# Altium schematic symbol library test.SchLib: 309 symbols (part 4 of 9)
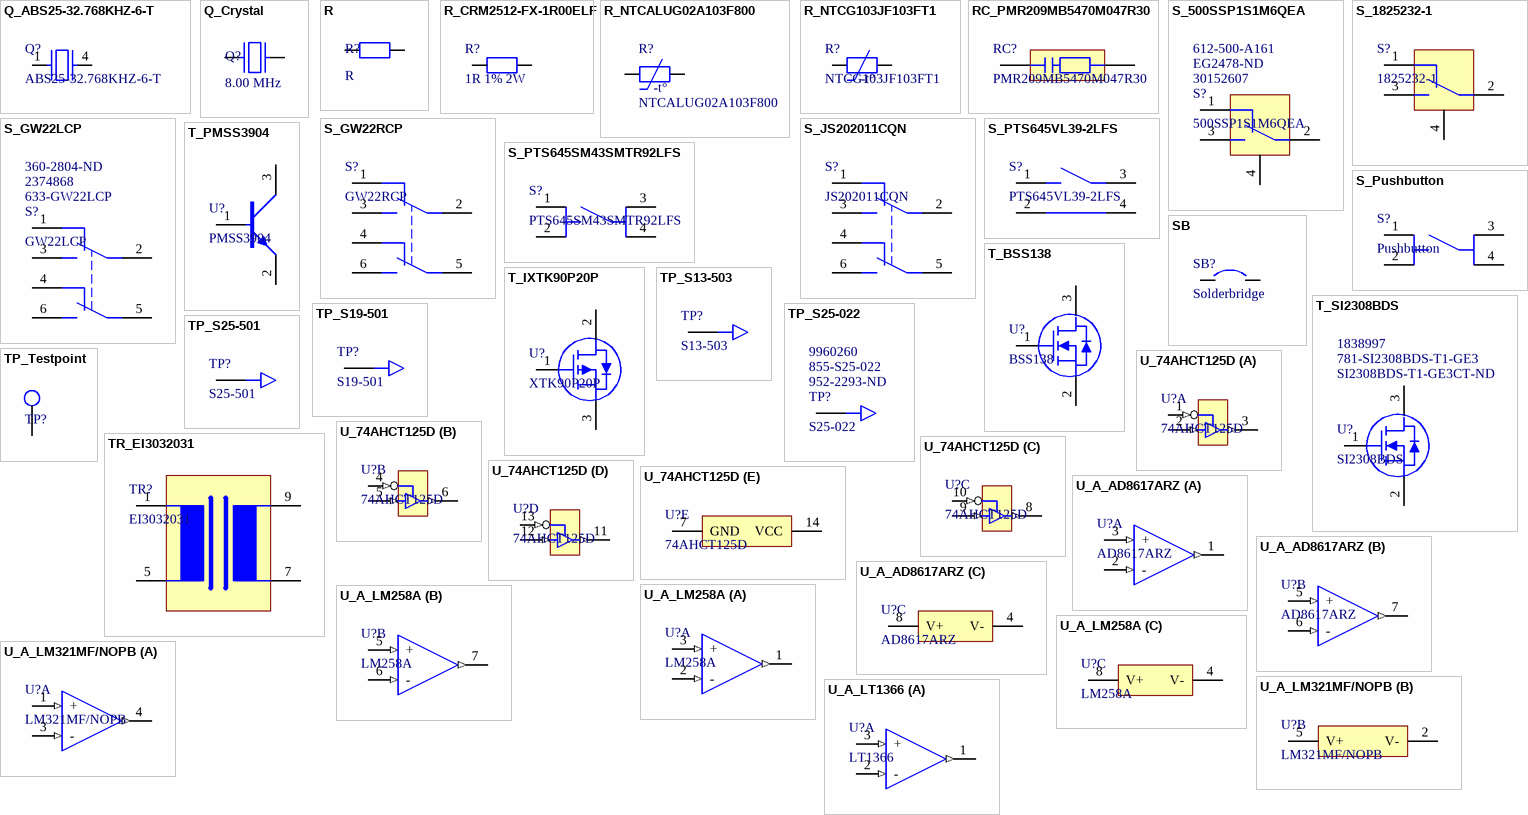
[diagram p11: symbols Q_ABS25-32.768KHZ-6-T to U_A_LT1366]

## Q_ABS25-32.768KHZ-6-T
designator Q?, comment ABS25-32.768KHZ-6-T
CRYSTAL 32.7680KHZ 6PF SMD; Manufacturer: Abracon; Frequency Tolerance: 20ppm; ESR (Equivalent Series Resistance): 50kR; Insulation Resistance: 500MR; Supplier 1: Digi-Key; Supplier Part Number 1: 535-10240-1-ND; Manufacturer Part Number: ABS25-32.768KHZ-6-T; Case/Package: SMD/SMT; ComponentLink1URL: https://datasheet.ciiva.com/854/abs25-854528.pdf; ComponentLink1Description: https://datasheet.ciiva.com/854/abs25-854528.pdf; ComponentLink2URL: https://datasheet.ciiva.com/26909/getdatasheetpartid-722397-26909970.pdf; ComponentLink2Description: https://datasheet.ciiva.com/26909/getdatasheetpartid-722397-26909970.pdf; ComponentLink3URL: https://datasheet.ciiva.com/854/abs25-854529.pdf; ComponentLink3Description: https://datasheet.ciiva.com/854/abs25-854529.pdf; ComponentLink4URL: https://datasheet.ciiva.com/5788/abs25-5788102.pdf; ComponentLink4Description: https://datasheet.ciiva.com/5788/abs25-5788102.pdf; ComponentLink5URL: https://datasheet.ciiva.com/7998/1856019-7998662.pdf; ComponentLink5Description: https://datasheet.ciiva.com/7998/1856019-7998662.pdf; ComponentLink6URL: https://datasheet.ciiva.com/1357/1856019-1357324.pdf; ComponentLink6Description: https://datasheet.ciiva.com/1357/1856019-1357324.pdf; ComponentLink7URL: https://datasheet.ciiva.com/854/abs25-854527.pdf; ComponentLink7Description: https://datasheet.ciiva.com/854/abs25-854527.pdf; RoHS: Yes; Category: Crystals; Stock 1: 8; Pricing 1: 1=1.10000, 10=1.05300, 50=1.02820, 100=0.88130, 500=0.85680, 1000=0.72216 (USD); Mount: Surface Mount; Number of Pins: 4; Min Operating Temperature: -40°C; Max Operating Temperature: 85°C; Package Quantity: 3000; Frequency: 32.768kHz; Load Capacitance: 6pF; Packaging: Tape and Reel; Tolerance: 20ppm; Termination: SMD/SMT; Series Resistance: 50kR; Length: 8.7mm; Width: 0.15inch; Height: 0.098inch; Depth: 3.8mm; Radiation Hardening: No; Lead Free: Lead Free; REACH SVHC: No SVHC; ComponentLink8URL: https://datasheet.ciiva.com/854/abs25-854528.pdf?src-supplier=Digi-Key; ComponentLink8Description: https://datasheet.ciiva.com/854/abs25-854528.pdf?src-supplier=Digi-Key; ComponentLink9URL: https://datasheet.ciiva.com/26909/getdatasheetpartid-722397-26909970.pdf?src-supplier=Verical; ComponentLink9Description: https://datasheet.ciiva.com/26909/getdatasheetpartid-722397-26909970.pdf?src-supplier=Verical; ComponentLink10URL: https://datasheet.ciiva.com/854/abs25-854529.pdf?src-supplier=Digi-Key; ComponentLink10Description: https://datasheet.ciiva.com/854/abs25-854529.pdf?src-supplier=Digi-Key; ComponentLink11URL: https://datasheet.ciiva.com/5788/abs25-5788102.pdf?src-supplier=Farnell; ComponentLink11Description: https://datasheet.ciiva.com/5788/abs25-5788102.pdf?src-supplier=Farnell; ComponentLink12URL: https://datasheet.ciiva.com/7998/1856019-7998662.pdf?src-supplier=Element14; ComponentLink12Description: https://datasheet.ciiva.com/7998/1856019-7998662.pdf?src-supplier=Element14; ComponentLink13URL: https://datasheet.ciiva.com/1357/1856019-1357324.pdf?src-supplier=Element14; ComponentLink13Description: https://datasheet.ciiva.com/1357/1856019-1357324.pdf?src-supplier=Element14; ComponentLink14URL: https://datasheet.ciiva.com/854/abs25-854527.pdf?src-supplier=Digi-Key; ComponentLink14Description: https://datasheet.ciiva.com/854/abs25-854527.pdf?src-supplier=Digi-Key; Supplier 2: Farnell; Stock 2: 3; Pricing 2: 5=0.93700, 50=0.80800, 250=0.68900, 500=0.66900, 1500=0.65000 (GBP); Supplier 3: Mouser; Supplier Part Number 2: 2101354; Supplier Part Number 3: 815-ABS25-32.768K6-T
footprint ABS25
pins: 1, 4

## Q_Crystal
designator Q?, comment 8.00 MHz
Crystal, generic
footprint ABLS2 (CRYSTAL Abracon LLC)
pins: 1, 2

## R
designator R?
Resistor, generic
footprint 0402_R
footprint 0603_R
footprint 0805_R
footprint 1206_R
footprint 1210_R
footprint 1218_R
footprint 2010_R
footprint 2512_R
footprint 0201_R (Chip Resistor, 2-Leads, Body 0.60x0.30mm, IPC Medium Density)
footprint 01005_R (Chip Resistor, 2-Leads, Body 0.40x0.20mm, IPC Medium Density)
footprint 10mm_tht_r
footprint 10.16mm_tht_r
footprint Resistor Pitch 2.54mm
pins: 1, 2

## R_CRM2512-FX-1R00ELF
designator R?, comment 1R 1% 2W
BOURNS - CRM2512-FX-1R00ELF - RESISTOR THICK FILM, 1OHM, 1%, 2512; Temperature Coefficient: 100ppm/°C; Voltage Rating: 300V; Supplier 1: Digi-Key; Supplier Part Number 1: CRM2512-FX-1R00ELFCT-ND; Manufacturer: Bourns; Manufacturer Part Number: CRM2512-FX-1R00ELF; Case/Package: 2512; ComponentLink1URL: https://datasheet.ciiva.com/22713/1695365-22713390.pdf; ComponentLink1Description: https://datasheet.ciiva.com/22713/1695365-22713390.pdf; ComponentLink2URL: https://datasheet.ciiva.com/2591/crm-2591396.pdf; ComponentLink2Description: https://datasheet.ciiva.com/2591/crm-2591396.pdf; Supplier 2: Farnell; RoHS: Yes; Category: Chip SMD Resistors; Stock 2: 6279; Pricing 2: 10=0.46100, 100=0.36800, 500=0.28100, 1000=0.24100, 2000=0.23600 (GBP); Mount: Surface Mount; Contact Plating: Tin; Case Code (Metric): 6432; Case Code (Imperial): 2512; Min Operating Temperature: -55°C; Max Operating Temperature: 155°C; Resistance: 1R; Tolerance: 1%; Power Rating: 2W; Resistor Type: Thick Film; Packaging: Tape and Reel; Package Quantity: 4000; Number of Terminations: 2; Max Power Dissipation: 2W; Voltage Rating (DC): 300V; Series: CRM2512; Construction: Rectangular; Resistance Tolerance: 1%; Length: 0.248inch; Width: 0.122inch; Height: 0.031inch; Depth: 3.1mm; REACH SVHC: No SVHC; Military Standard: Not; RoHS Compliant: Yes; ComponentLink3URL: https://datasheet.ciiva.com/2591/crm-2591396.pdf?src-supplier=Digi-Key; ComponentLink3Description: https://datasheet.ciiva.com/2591/crm-2591396.pdf?src-supplier=Digi-Key; ComponentLink4URL: https://datasheet.ciiva.com/22713/1695365-22713390.pdf?src-supplier=Element14; ComponentLink4Description: https://datasheet.ciiva.com/22713/1695365-22713390.pdf?src-supplier=Element14; Supplier 3: Mouser; Pricing 3: 1=0.65000, 10=0.38300, 50=0.38300, 100=0.35600, 1000=0.23300, 10000=0.22500 (USD); Supplier Part Number 2: 2328172; Supplier Part Number 3: 652-CRM2512FX1R00ELF
footprint 2512_R
pins: 1 2, 2

## R_NTCALUG02A103F800
designator R?, comment NTCALUG02A103F800
THERM NTC 10KOHM 3984K RING LUG; Manufacturer: Vishay BCcomponents; Tolerance: 1%; Max Power Dissipation: 100mW; Supplier 1: Digi-Key; Supplier Part Number 1: BC2899-ND; Manufacturer Part Number: NTCALUG02A103F800; RoHS: Yes; Category: Thermistors; Stock 1: 169; Pricing 1: 1=2.55000, 5=2.41600, 10=2.07000, 25=1.65600, 50=1.51800, 100=1.38000, 500=1.20750, 1000=1.06950, 5000=1.00050 (USD); Mount: Free Hanging; Min Operating Temperature: -40°C; Max Operating Temperature: 150°C; Packaging: Bulk; Lead Free: Lead Free; ComponentLink1URL: http://www.vishay.com/docs/48301/_capabilities_and_options_ntcalug_vmn-ms7447.pdf?src-supplier=Digi-Key; ComponentLink1Description: http://www.vishay.com/docs/48301/_capabilities_and_options_ntcalug_vmn-ms7447.pdf?src-supplier=Digi-Key; Supplier 2: Farnell; Stock 2: 460; Pricing 2: 1=2.42000, 10=1.98000, 25=1.62000, 50=1.50000, 100=1.37000, 500=1.22000, 1000=1.09000 (GBP); Supplier 3: Distrelec; Stock 3: 408; Pricing 3: 1=2.29000, 10=1.96300, 50=1.71800, 100=1.52700, 500=1.37400, 1000=1.14500 (EUR); Supplier Part Number 2: 2885025; Supplier Part Number 3: 30153835
footprint NTCALUG02A103F800
pins: 1, 2
text: -t°

## R_NTCG103JF103FT1
designator R?, comment NTCG103JF103FT1
THERMISTOR NTC 10K OHM 1% 0402; Manufacturer: TDK; Manufacturer Part Number: NTCG103JF103FT1; Case/Package: 0402; ComponentLink1URL: https://datasheet.ciiva.com/2848/ntcg103jf103ft1-web-2848583.pdf; ComponentLink1Description: https://datasheet.ciiva.com/2848/ntcg103jf103ft1-web-2848583.pdf; ComponentLink2URL: https://datasheet.ciiva.com/2848/ntcg103jf103ft1-web-2848584.pdf; ComponentLink2Description: https://datasheet.ciiva.com/2848/ntcg103jf103ft1-web-2848584.pdf; ComponentLink3URL: https://datasheet.ciiva.com/2848/ntcg103jf103ft1-web-2848585.pdf; ComponentLink3Description: https://datasheet.ciiva.com/2848/ntcg103jf103ft1-web-2848585.pdf; Supplier 1: Digi-Key; Supplier 2: Mouser; Supplier 3: Farnell; Supplier Part Number 1: 445-2550-1-ND; Supplier Part Number 2: 810-NTCG103JF103FT1; Supplier Part Number 3: 3516879
footprint 0402_R
pins: 1, 2
text: -t°

## RC_PMR209MB5470M047R30
designator RC?, comment PMR209MB5470M047R30
Film Capacitors 250volts 0.047uF 20% LS 15.2mm; Manufacturer: KEMET; Dielectric Material: Paper; Capacitance: 47nF; Resistance: 47R; Voltage Rating (AC): 250V; Number of Elements: 1; Voltage: 630V; Insulation Resistance: 3GR; Lead Diameter: 0.8mm; Lead Length: 30mm; Supplier 1: Digi-Key; Supplier Part Number 1: 399-7509-ND; Manufacturer Part Number: PMR209MB5470M047R30; Stock 1: 59; Pricing 1: 1 = 3.70000, 10 = 2.98100, 100 = 2.32500, 500 = 1.72884, 1000 = 1.60961, 2500 = 1.54999, 5000 = 1.52018 (USD); RoHS: Yes; Mount: Through Hole; Case/Package: Radial; Number of Terminals: 2; Min Operating Temperature: -40°C; Max Operating Temperature: 85°C; Tolerance: 20%; Termination: Radial; Package Quantity: 400; Packaging: Bulk; Series Resistance: 47R; Voltage Rating (DC): 250V; Length: 18.5mm; Height: 13mm; Width: 7.3mm; Lead Pitch: 15.2mm; Height - Seated (Max): 0.512inch; Terminal Pitch: 15.2mm; Depth: 7.3mm; Pitch: 15.2mm; Radiation Hardening: No; REACH SVHC: No SVHC; ComponentLink1URL: https://datasheet.ciiva.com/23810/1723866-23810753.pdf?src-supplier=Newark; ComponentLink1Description: https://datasheet.ciiva.com/23810/1723866-23810753.pdf?src-supplier=Newark; ComponentLink2URL: https://datasheet.ciiva.com/22666/1723866-22666524.pdf?src-supplier=Element14; ComponentLink2Description: https://datasheet.ciiva.com/22666/1723866-22666524.pdf?src-supplier=Element14; ComponentLink3URL: https://datasheet.ciiva.com/28454/1723866-28454893.pdf?src-supplier=Element14; ComponentLink3Description: https://datasheet.ciiva.com/28454/1723866-28454893.pdf?src-supplier=Element14
footprint PMR209MB5470M047R30 (FILTER RC 47 OHM/0.047UF TH)
pins: 1, 2

## S_500SSP1S1M6QEA
designator S?, comment 500SSP1S1M6QEA  Supplier Part Number 1: 30152607  Supplier Part Number 2: EG2478-ND  Supplier Part Number 3: 612-500-A161
Switch Slide ON None ON SPDT Side Slide 5A 250VAC 28VDC PC Pins Bracket Mount/Through Hole; Manufacturer: E-Switch; Mechanical Life: 30000Cycles; Actuator Material: Nylon,Polyamide; Actuator Type: Standard; Voltage Rating (AC): 120V; Max Voltage Rating (AC): 250V; Voltage Rating (DC): 28V; Contact Resistance: 10mR; Switch Function: On-On; Switch Travel: 2.16mm; Actuator Length: 4.72mm; Manufacturer Part Number: 500SSP1S1M6QEA; RoHS: Yes; Category: Slide Switches; Stock: 1595; Pricing 2: 1=3.03000, 10=2.85700, 25=2.59760, 100=2.25130, 250=2.04104, 500=1.89262, 1000=1.75654, 2500=1.59573, 5000=1.48440 (USD); Mount: Through Hole,Brackets; Contact Plating: Silver; Contact Material: Copper Alloy,Copper,Silver; Housing Material: Stainless Steel; Min Operating Temperature: -30°C; Max Operating Temperature: 85°C; Termination: PC Pin; Electrical Life: 30000Cycles; Contact Current Rating: 5A; Packaging: Bulk; Current Rating: 5A; Throw Configuration: SPDT; Max Voltage Rating (DC): 28V; Package Quantity: 1; Orientation: Right Angle; REACH SVHC: Unknown; Flammability Rating: UL94 V-0; Lead Free: Lead Free; ComponentLink1URL: https://datasheet.ciiva.com/2889/t511006d-2889419.pdf?src-supplier=Digi-Key; ComponentLink1Description: https://datasheet.ciiva.com/2889/t511006d-2889419.pdf?src-supplier=Digi-Key; ComponentLink2URL: https://datasheet.ciiva.com/16337/500-16337624.pdf?src-supplier=Future+Electronics; ComponentLink2Description: https://datasheet.ciiva.com/16337/500-16337624.pdf?src-supplier=Future+Electronics; ComponentLink3URL: https://datasheet.ciiva.com/16174/35500-16174234.pdf?src-supplier=Onlinecomponents.com; ComponentLink3Description: https://datasheet.ciiva.com/16174/35500-16174234.pdf?src-supplier=Onlinecomponents.com; Supplier 1: Distrelec; Supplier 2: Digi-Key; Supplier 3: Mouser
footprint 500SSP1S1M6QEA
pins: 1 16, 2 18, 3 17, 4

## S_1825232-1
designator S?, comment 1825232-1
Slide Switches SLIDE SWITCH SPDT Right Angle; Manufacturer: TE Connectivity AMP; Actuator Material: Nylon; Mechanical Life: 10000Cycles; Voltage Rating (DC): 30V; Current Rating: 200mA; Operating Force: 200gf; Number of Positions: 2; PCB Mount Retention: With; Switch Function: On-On; Switch Travel: 2mm; Actuator Type: Standard; Contact Style: Non-Shorting; Tail Length: 0.094inch; Actuator Length: 0.118inch; Max Current Rating: 100A; Resistance: 4.5R; Power Dissipation: 600mW; Hold Current: 160mA; Trip Current: 370mA; Time to Trip: 0.3s; Approvals: cULus,TUV; Manufacturer Part Number: 1825232-1; RoHS: Yes; Category: Slide Switches; Stock 1: 15722; Pricing 1: 1=0.31000, 10=0.30000, 25=0.29360, 50=0.26240, 100=0.24990, 250=0.24360, 500=0.20614, 1000=0.19989, 5000=0.17490 (USD); Mount: Through Hole; Contact Material: Copper Alloy; Contact Plating: Silver; Min Operating Temperature: -20°C; Max Operating Temperature: 70°C; Throw Configuration: SPDT; Package Quantity: 19200; Packaging: Tray; Orientation: Right Angle; Contact Current Rating: 200mA; Termination: PC Pin; Electrical Life: 10000Cycles; Type: Switch; Max Voltage Rating (DC): 30V; Length: 0.3563inch; Width: 4.3mm; ELV: Compliant; Flammability Rating: UL94 HB; ComponentLink1URL: https://datasheet.ciiva.com/15085/eng-cd-1825232-b2-15085854.pdf?src-supplier=Digi-Key; ComponentLink1Description: https://datasheet.ciiva.com/15085/eng-cd-1825232-b2-15085854.pdf?src-supplier=Digi-Key; Stock 2: 6; Pricing 2: 1=0.34000, 10=0.31200, 50=0.28000, 100=0.26800, 1000=0.19100, 10000=0.18300 (USD); Case/Package: 1206; Case Code (Metric): 3216; Case Code (Imperial): 1206; Terminal Material: Copper; Operating Supply Voltage: 30V; Voltage Rating: 30V; Working Voltage: 30V; Max Power Dissipation: 600mW; Series: 1206L; Height: 1.45mm; REACH SVHC: No SVHC; Lead Free: Lead Free; RoHS Compliant: Yes; ComponentLink2URL: https://datasheet.ciiva.com/1273/578280-1273584.pdf?src-supplier=Element14; ComponentLink2Description: https://datasheet.ciiva.com/1273/578280-1273584.pdf?src-supplier=Element14; ComponentLink3URL: https://datasheet.ciiva.com/14102/1206l-eng-datasheet-14102816.pdf?src-supplier=Distrelec; ComponentLink3Description: https://datasheet.ciiva.com/14102/1206l-eng-datasheet-14102816.pdf?src-supplier=Distrelec; ComponentLink4URL: https://datasheet.ciiva.com/16321/littelfuse-1206l-16321409.pdf?src-supplier=Future+Electronics; ComponentLink4Description: https://datasheet.ciiva.com/16321/littelfuse-1206l-16321409.pdf?src-supplier=Future+Electronics; ComponentLink5URL: https://datasheet.ciiva.com/30470/0900766b8128f4fb-30470039.pdf?src-supplier=RSComponents; ComponentLink5Description: https://datasheet.ciiva.com/30470/0900766b8128f4fb-30470039.pdf?src-supplier=RSComponents; ComponentLink6URL: https://datasheet.ciiva.com/1273/littelfuse-ptc-1206l-1273585.pdf?src-supplier=Element14; ComponentLink6Description: https://datasheet.ciiva.com/1273/littelfuse-ptc-1206l-1273585.pdf?src-supplier=Element14; ComponentLink7URL: https://datasheet.ciiva.com/325/littelfuse-ptc-1206l-325747.pdf?src-supplier=Digi-Key; ComponentLink7Description: https://datasheet.ciiva.com/325/littelfuse-ptc-1206l-325747.pdf?src-supplier=Digi-Key; ComponentLink8URL: https://datasheet.ciiva.com/325/littelfuse-ptc-1206l-325748.pdf?src-supplier=Digi-Key; ComponentLink8Description: https://datasheet.ciiva.com/325/littelfuse-ptc-1206l-325748.pdf?src-supplier=Digi-Key; ComponentLink9URL: https://datasheet.ciiva.com/325/littelfuse-ptc-1206l-325749.pdf?src-supplier=Digi-Key; ComponentLink9Description: https://datasheet.ciiva.com/325/littelfuse-ptc-1206l-325749.pdf?src-supplier=Digi-Key; Stock 3: 13219; Pricing 3: 1=0.29800, 10=0.28400, 25=0.27800, 100=0.23900, 500=0.20100, 1000=0.19600 (GBP); Supplier 1: Digi-Key; Supplier 2: Mouser; Supplier 3: Farnell; Supplier Part Number 1: A107673-ND; Supplier Part Number 2: 655-1825232-1; Supplier Part Number 3: 2772069
footprint 1825232-1
pins: 1 16, 2 18, 3 17, 4

## S_GW22LCP
designator S?, comment GW22LCP  Supplier Part Number 1: 633-GW22LCP  Supplier Part Number 2: 2374868  Supplier Part Number 3: 360-2804-ND
Rocker Switches DPDT ON-ON RED PADDLE ACTUATOR; Manufacturer: NKK Switches; Actuator Material: Polyamide,Glass fibre; Mechanical Life: 50000Cycles; Max Current Rating: 100mA; Max Voltage Rating (AC): 28V; Power Rating: 400mW; Illumination Type: Illuminated; Manufacturer Part Number: GW22LCP; RoHS: Yes; Category: Rocker Switches; Stock 1: 554; Pricing 1: 1=3.46000, 10=3.09600, 25=2.93760, 50=2.79360, 100=2.66400, 250=2.54880, 500=2.33280, 1000=2.21760 (USD); Mount: Through Hole; Color: Red; Contact Plating: Gold; Contact Material: Bronze; Housing Material: Polyamide; Min Operating Temperature: -30°C; Max Operating Temperature: 85°C; Packaging: Tray; Throw Configuration: DPDT; Orientation: Vertical; Package Quantity: 1; Max Voltage Rating (DC): 28V; Actuator Type: Paddle; Switch Function: On-On; Voltage Rating (AC): 28V; Voltage Rating (DC): 28V; Termination: PC Pin; Electrical Life: 50000Cycles; Length: 7.5mm; Depth: 5mm; Lead Free: Lead Free; REACH SVHC: No SVHC; ComponentLink1URL: https://datasheet.ciiva.com/5273/gw-25995-5273388.pdf?src-supplier=Mouser; ComponentLink1Description: https://datasheet.ciiva.com/5273/gw-25995-5273388.pdf?src-supplier=Mouser; Supplier 1: Mouser; Supplier 2: Farnell; Supplier 3: Digi-Key
footprint GW22LxP
pins: 1 16, 2 18, 3 17, 4 16, 5 18, 6 17

## S_GW22RCP
designator S?, comment GW22RCP
SWITCH ROCKER DPDT 0.4VA 28V; Manufacturer: NKK Switches; Mechanical Life: 50000Cycles; Power Rating: 400mW; Switch Function: On-On; Illumination Type: Illuminated; Supplier 1: Digi-Key; Manufacturer Part Number: GW22RCP; RoHS: Yes; Category: Rocker Switches; Stock 1: 31; Pricing 1: 1=3.46000, 10=3.09600, 25=2.93760, 50=2.79360, 100=2.66400, 250=2.54880, 500=2.33280, 1000=2.21760 (USD); Mount: Through Hole; Color: Red; Contact Plating: Gold; Min Operating Temperature: -30°C; Max Operating Temperature: 85°C; Packaging: Tray; Actuator Type: Rocker; Orientation: Vertical; Throw Configuration: DPDT; Package Quantity: 1; Voltage Rating (AC): 28V; Voltage Rating (DC): 28V; Termination: PC Pin; Electrical Life: 50000Cycles; Lead Free: Lead Free; REACH SVHC: No SVHC; ComponentLink1URL: https://datasheet.ciiva.com/2882/gw-2882900.pdf?src-supplier=Digi-Key; ComponentLink1Description: https://datasheet.ciiva.com/2882/gw-2882900.pdf?src-supplier=Digi-Key; ComponentLink2URL: https://datasheet.ciiva.com/5273/gw-25995-5273257.pdf?src-supplier=Mouser; ComponentLink2Description: https://datasheet.ciiva.com/5273/gw-25995-5273257.pdf?src-supplier=Mouser; Supplier Part Number 1: GW22RCP-ND
footprint GW22RxP
pins: 1 16, 2 18, 3 17, 4 16, 5 18, 6 17

## S_JS202011CQN
designator S?, comment JS202011CQN
SWITCH SLIDE DPDT 300MA 6V; Manufacturer: ITT C&K; Actuator Material: Nylon; Contact Resistance: 70mR; Contact Current Rating: 100mA; Illumination Type: Non-Illuminated; Electrical Life: 5000Cycles; Switch Travel: 2mm; Switch Function: On-On; Actuator Type: Standard; Manufacturer Part Number: JS202011CQN; Stock 1: 33682; Pricing 1: 1=0.43000, 10=0.41600, 25=0.40720, 50=0.36380, 100=0.34650, 250=0.33784, 500=0.28586, 1000=0.27720, 5000=0.24255 (USD); RoHS: Yes; Mount: Through Hole; Contact Material: Copper Alloy; Contact Plating: Silver; Housing Material: Nylon; Min Operating Temperature: -40°C; Max Operating Temperature: 85°C; Throw Configuration: DPDT; Max Voltage Rating (DC): 6V; Termination: PC Pins; Voltage Rating (DC): 6V; Max Current Rating: 300mA; Current Rating: 300mA; Package Quantity: 1; Packaging: Bulk; Orientation: Vertical; Length: 9mm; Depth: 3.6mm; Actuator Length: 2mm; Radiation Hardening: No; REACH SVHC: No SVHC; Lead Free: Lead Free; Flammability Rating: UL94 V-0; ComponentLink1URL: https://datasheet.ciiva.com/5280/js-15sept15-5280375.pdf?src-supplier=Mouser; ComponentLink1Description: https://datasheet.ciiva.com/5280/js-15sept15-5280375.pdf?src-supplier=Mouser; ComponentLink2URL: https://datasheet.ciiva.com/22630/1707718-22630695.pdf?src-supplier=Element14; ComponentLink2Description: https://datasheet.ciiva.com/22630/1707718-22630695.pdf?src-supplier=Element14; ComponentLink3URL: https://datasheet.ciiva.com/8082/js-9dec14-8082522.pdf?src-supplier=Avnet; ComponentLink3Description: https://datasheet.ciiva.com/8082/js-9dec14-8082522.pdf?src-supplier=Avnet; ComponentLink4URL: https://datasheet.ciiva.com/2889/js-9dec14-2889166.pdf?src-supplier=Digi-Key; ComponentLink4Description: https://datasheet.ciiva.com/2889/js-9dec14-2889166.pdf?src-supplier=Digi-Key; Supplier 1: Digi-Key; Supplier 2: Mouser; Supplier 3: Farnell; Supplier Part Number 1: 401-2001-ND; Supplier Part Number 2: 611-JS202011CQN; Supplier Part Number 3: 2320018
footprint JS202011CQN (JS202011CQN switch)
pins: 1 16, 2 18, 3 17, 4 16, 5 18, 6 17

## S_PTS645SM43SMTR92LFS
designator S?, comment PTS645SM43SMTR92LFS
SWITCH ROCKER DPDT 0.4VA 28V; Manufacturer 1: ITT C&K; Manufacturer: NKK Switches; Manufacturer Part Number: GW22RCP; Mechanical Life: 50000Cycles; Power Rating: 400mW; Switch Function: On-On; Illumination Type: Illuminated; Manufacturer Part Number 1: PTS645SM43SMTR92LFS; ComponentLink1URL: https://datasheet.ciiva.com/29931/getdatasheetpartid-764615-29931183.pdf; ComponentLink1Description: https://datasheet.ciiva.com/29931/getdatasheetpartid-764615-29931183.pdf; ComponentLink2URL: https://datasheet.ciiva.com/29903/getdatasheetpartid-786341-29903846.pdf; ComponentLink2Description: https://datasheet.ciiva.com/29903/getdatasheetpartid-786341-29903846.pdf; ComponentLink3URL: https://datasheet.ciiva.com/14920/pts645-14920734.pdf; ComponentLink3Description: https://datasheet.ciiva.com/14920/pts645-14920734.pdf; ComponentLink4URL: https://datasheet.ciiva.com/14920/pts645-14920735.pdf; ComponentLink4Description: https://datasheet.ciiva.com/14920/pts645-14920735.pdf; ComponentLink5URL: https://datasheet.ciiva.com/14920/pts645-14920733.pdf; ComponentLink5Description: https://datasheet.ciiva.com/14920/pts645-14920733.pdf; RoHS: Yes; Category: Rocker Switches; Stock 2: 31; Pricing 2: 1=3.46000, 10=3.09600, 25=2.93760, 50=2.79360, 100=2.66400, 250=2.54880, 500=2.33280, 1000=2.21760 (USD); Mount: Through Hole; Color: Red; Contact Plating: Gold; Min Operating Temperature: -30°C; Max Operating Temperature: 85°C; Packaging: Tray; Actuator Type: Rocker; Orientation: Vertical; Throw Configuration: DPDT; Package Quantity: 1; Voltage Rating (AC): 28V; Voltage Rating (DC): 28V; Termination: PC Pin; Electrical Life: 50000Cycles; Lead Free: Lead Free; REACH SVHC: No SVHC; ComponentLink6URL: https://datasheet.ciiva.com/2882/gw-2882900.pdf?src-supplier=Digi-Key; ComponentLink6Description: https://datasheet.ciiva.com/2882/gw-2882900.pdf?src-supplier=Digi-Key; ComponentLink7URL: https://datasheet.ciiva.com/5273/gw-25995-5273257.pdf?src-supplier=Mouser; ComponentLink7Description: https://datasheet.ciiva.com/5273/gw-25995-5273257.pdf?src-supplier=Mouser; Supplier 1: Digi-Key; Supplier 2: Mouser; Supplier 3: Farnell; Supplier Part Number 1: CKN9112CT-ND; Supplier Part Number 2: 611-PTS645SM43SMTR92; Supplier Part Number 3: 2320087
footprint PTS645S (PTS645S  SWITCH TACTILE SPST-NO)
pins: 1 16, 2 17, 3 18, 4 19

## S_PTS645VL39-2LFS
designator S?, comment PTS645VL39-2LFS
SWITCH TACTILE SPST-NO 0.05A 12V; Manufacturer: ITT C&K; Mechanical Life: 100000Cycles; Actuator Material: Nylon,Polyamide; Operating Force: 130gf; Throw Configuration: SPST; Current Rating: 50mA; Illumination Type: Illuminated,Non-Illuminated; Switch Function: Off-Mom; Actuator Type: Standard; Manufacturer Part Number: PTS645VL39-2LFS; RoHS: Yes; Mount: Through Hole; Contact Plating: Silver; Contact Material: Brass,Bronze,Silver; Color: Black; Min Operating Temperature: -20°C; Max Operating Temperature: 60°C; Packaging: Bulk; Max Voltage Rating (DC): 12V; Termination: PC Pins; Voltage Rating (DC): 12V; Package Quantity: 1000; Max Current Rating: 50mA; Orientation: Right Angle; Length: 7.5mm; Depth: 7.8mm; REACH SVHC: No SVHC; Lead Free: Lead Free; ComponentLink1URL: https://www.ckswitches.com/media/1471/pts645.pdf?src-supplier=Digi-Key; ComponentLink1Description: https://www.ckswitches.com/media/1471/pts645.pdf?src-supplier=Digi-Key; ComponentLink2URL: https://www.verical.com/server-webapp/html/getDatasheet?partID=764616&src-supplier=Verical; ComponentLink2Description: https://www.verical.com/server-webapp/html/getDatasheet?partID=764616&src-supplier=Verical; Supplier 1: Digi-Key; Supplier 2: Farnell; Supplier 3: Mouser; Supplier Part Number 1: CKN9103-ND; Supplier Part Number 2: 3263390; Supplier Part Number 3: 611-PTS645VL392
footprint PTS645VL31-2 LFS
pins: 1 16, 2 17, 3 18, 4 19

## S_Pushbutton
designator S?, comment Pushbutton
Generic Pushbutton
footprint PTS645S (PTS645S  SWITCH TACTILE SPST-NO)
pins: 1 16, 2 17, 3 18, 4 19

## SB
designator SB?, comment Solderbridge
footprint Solderjumper
pins: 1, 2

## T_BSS138
designator U?, comment BSS138
MOSFET N-CH 50V 220MA SOT-23; Manufacturer: ON Semiconductor / Fairchild; Manufacturer Part Number: BSS138; Case/Package: SOT-23; ComponentLink1URL: https://datasheet.ciiva.com/931/bss138-931776.pdf; ComponentLink1Description: https://datasheet.ciiva.com/931/bss138-931776.pdf; ComponentLink2URL: https://datasheet.ciiva.com/1190/193736-1190130.pdf; ComponentLink2Description: https://datasheet.ciiva.com/1190/193736-1190130.pdf; ComponentLink3URL: https://datasheet.ciiva.com/1190/193736-1190131.pdf; ComponentLink3Description: https://datasheet.ciiva.com/1190/193736-1190131.pdf; ComponentLink4URL: https://datasheet.ciiva.com/1254/193736-1254983.pdf; ComponentLink4Description: https://datasheet.ciiva.com/1254/193736-1254983.pdf; ComponentLink5URL: https://datasheet.ciiva.com/3304/bss138-3304423.pdf; ComponentLink5Description: https://datasheet.ciiva.com/3304/bss138-3304423.pdf; ComponentLink6URL: https://datasheet.ciiva.com/3304/bss138-3304424.pdf; ComponentLink6Description: https://datasheet.ciiva.com/3304/bss138-3304424.pdf; ComponentLink7URL: https://datasheet.ciiva.com/22655/193736-22655240.pdf; ComponentLink7Description: https://datasheet.ciiva.com/22655/193736-22655240.pdf; ComponentLink8URL: https://datasheet.ciiva.com/16834/bss138-16834843.pdf; ComponentLink8Description: https://datasheet.ciiva.com/16834/bss138-16834843.pdf; ComponentLink9URL: https://datasheet.ciiva.com/27050/784896-27050043.pdf; ComponentLink9Description: https://datasheet.ciiva.com/27050/784896-27050043.pdf; ComponentLink10URL: https://datasheet.ciiva.com/26229/bss138-26229007.pdf; ComponentLink10Description: https://datasheet.ciiva.com/26229/bss138-26229007.pdf; Supplier 1: Digi-Key; Supplier 2: Mouser; Supplier 3: Farnell; Supplier Part Number 1: BSS138DKR-ND; Supplier Part Number 2: 512-BSS138; Supplier Part Number 3: 9845330
footprint SOT-23 (SOT23, 3-Leads, Body 2.90x2.45mm, Pitch 0.95mm, IPC Medium Density)
pins: 1 G, 2 S, 3 D

## T_IXTK90P20P
designator U?, comment XTK90P20P
MOSFET -90.0 Amps -200V 0.044 Rds; Manufacturer: IXYS; Manufacturer Part Number: IXTK90P20P; Rds On Max: 44mR; Input Capacitance: 12nF; Drain to Source Voltage (Vdss): 200V; Continuous Drain Current (ID): 90A; Max Power Dissipation: 890W; Number of Elements: 1; Element Configuration: Single; Gate to Source Voltage (Vgs): 20V; Polarity: NPN; Collector Emitter Voltage (VCEO): 45V; Max Collector Current: 500mA; Collector Base Voltage (VCBO): 50V; Emitter Base Voltage (VEBO): 5V; Collector Emitter Saturation Voltage: 700mV; hFE Min: 100; Transition Frequency: 100MHz; Stock 1: 43; Pricing 1: 1 = 13.65410, 10 = 12.73570, 25 = 11.99300, 50 = 11.25740, 100 = 10.95970, 250 = 10.25560, 500 = 9.52510, 1000 = 8.87490 (USD); RoHS: Yes; Mount: Through Hole; Case/Package: TO-264; Min Operating Temperature: -55°C; Max Operating Temperature: 150°C; Package Quantity: 25; Packaging: Rail/Tube; Drain to Source Resistance: 44mR; Power Dissipation: 890W; Drain to Source Breakdown Voltage: -200V; Radiation Hardening: No; Lead Free: Lead Free; ComponentLink1URL: https://datasheet.ciiva.com/26924/getdatasheetpartid-716018-26924197.pdf?src-supplier=Verical; ComponentLink1Description: https://datasheet.ciiva.com/26924/getdatasheetpartid-716018-26924197.pdf?src-supplier=Verical; ComponentLink2URL: https://datasheet.ciiva.com/4443/ds99933bixtk-tx90p20p-19414-4443468.pdf?src-supplier=Mouser; ComponentLink2Description: https://datasheet.ciiva.com/4443/ds99933bixtk-tx90p20p-19414-4443468.pdf?src-supplier=Mouser; Stock 2: 45206; Pricing 2: 1 = 0.19000, 10 = 0.17300, 100 = 0.09440, 500 = 0.05808, 1000 = 0.03960 (USD); Number of Pins: 3; Contact Plating: Tin; Collector Emitter Breakdown Voltage: 45V; Gain Bandwidth Product: 100MHz; Frequency: 100MHz; Max Breakdown Voltage: 45V; Halogen Free: Halogen Free; ComponentLink3URL: https://datasheet.ciiva.com/15139/getdatasheetpartid-84401-15139109.pdf?src-supplier=Verical; ComponentLink3Description: https://datasheet.ciiva.com/15139/getdatasheetpartid-84401-15139109.pdf?src-supplier=Verical; ComponentLink4URL: https://datasheet.ciiva.com/980/bc817-16lt1-d-980715.pdf?src-supplier=Digi-Key; ComponentLink4Description: https://datasheet.ciiva.com/980/bc817-16lt1-d-980715.pdf?src-supplier=Digi-Key; ComponentLink5URL: https://datasheet.ciiva.com/26115/bc817-16lt1-d-26115598.pdf?src-supplier=Avnet+Europe; ComponentLink5Description: https://datasheet.ciiva.com/26115/bc817-16lt1-d-26115598.pdf?src-supplier=Avnet+Europe; ComponentLink6URL: https://datasheet.ciiva.com/11204/bc817-16lt1-d-11204335.pdf?src-supplier=Avnet; ComponentLink6Description: https://datasheet.ciiva.com/11204/bc817-16lt1-d-11204335.pdf?src-supplier=Avnet; Supplier 1: Digi-Key; Supplier 2: Mouser; Supplier 3: Farnell; Supplier Part Number 1: IXTK90P20P-ND; Supplier Part Number 2: 747-IXTK90P20P; Supplier Part Number 3: 3438413
footprint TO-264
footprint TO-264-Coolingblock (TO-264)
pins: 1 G, 2 D, 3 S

## T_PMSS3904
designator U?, comment PMSS3904
TRANS NPN 40V 0.1A SOT323; Manufacturer: NXP Semiconductors; Manufacturer Part Number: PMSS3904,115; Max Power Dissipation: 200mW; Collector Base Voltage (VCBO): 60V; Max Collector Current: 100mA; Emitter Base Voltage (VEBO): 6V; Element Configuration: Single; Gain Bandwidth Product: 180MHz; Number of Elements: 1; RoHS: Yes; Stock 1: 5101; Pricing 1: 1 = 0.21000, 10 = 0.17400, 100 = 0.09250, 500 = 0.06084, 1000 = 0.04137 (USD); Mount: Surface Mount; Case/Package: SOT-323; Number of Pins: 3; Min Operating Temperature: -65°C; Max Operating Temperature: 150°C; Collector Emitter Voltage (VCEO): 40V; Packaging: Tape and Reel; Package Quantity: 1; Polarity: NPN; Transition Frequency: 180MHz; Collector Emitter Breakdown Voltage: 40V; Frequency: 180MHz; Max Breakdown Voltage: 40V; Power Dissipation: 200mW; Radiation Hardening: No; Lead Free: Lead Free; ComponentLink1URL: http://www.nxp.com/documents/data_sheet/PMSS3904.pdf; ComponentLink1Description: http://www.nxp.com/documents/data_sheet/PMSS3904.pdf; ComponentLink2URL: http://www.mouser.com/ds/2/302/PMSS3904-353457.pdf; ComponentLink2Description: http://www.mouser.com/ds/2/302/PMSS3904-353457.pdf; Supplier 1: Digi-Key; Supplier 2: Mouser; Supplier Part Number 1: 1727-6290-1-ND; Supplier Part Number 2: 771-PMSS3904T/R
footprint SOT323
pins: 1 G, 2 S, 3 D

## T_SI2308BDS
designator U?, comment SI2308BDS  Supplier Part Number 1: SI2308BDS-T1-GE3CT-ND  Supplier Part Number 2: 781-SI2308BDS-T1-GE3  Supplier Part Number 3: 1838997
Trans MOSFET N-CH 60V 1.9A 3-Pin SOT-23 T/R; Manufacturer: Vishay; Manufacturer Part Number: SI2308BDS-T1-GE3; Case/Package: SOT-23; ComponentLink1URL: https://datasheet.ciiva.com/17068/0900766b80ed1e93-17068482.pdf; ComponentLink1Description: https://datasheet.ciiva.com/17068/0900766b80ed1e93-17068482.pdf; ComponentLink2URL: https://datasheet.ciiva.com/26139/si2308bd-26139136.pdf; ComponentLink2Description: https://datasheet.ciiva.com/26139/si2308bd-26139136.pdf; ComponentLink3URL: https://datasheet.ciiva.com/28603/1911751-28603483.pdf; ComponentLink3Description: https://datasheet.ciiva.com/28603/1911751-28603483.pdf; ComponentLink4URL: https://datasheet.ciiva.com/6388/si2308bd-6388236.pdf; ComponentLink4Description: https://datasheet.ciiva.com/6388/si2308bd-6388236.pdf; ComponentLink5URL: https://datasheet.ciiva.com/6388/si2308bd-6388237.pdf; ComponentLink5Description: https://datasheet.ciiva.com/6388/si2308bd-6388237.pdf; ComponentLink6URL: https://datasheet.ciiva.com/7643/si2308bd-7643237.pdf; ComponentLink6Description: https://datasheet.ciiva.com/7643/si2308bd-7643237.pdf; ComponentLink7URL: https://datasheet.ciiva.com/16221/si2308bd-16221719.pdf; ComponentLink7Description: https://datasheet.ciiva.com/16221/si2308bd-16221719.pdf; ComponentLink8URL: https://datasheet.ciiva.com/6388/si2308bd-6388235.pdf; ComponentLink8Description: https://datasheet.ciiva.com/6388/si2308bd-6388235.pdf; Supplier 1: Digi-Key; Supplier 2: Mouser; Supplier 3: Farnell
footprint SOT-23 (SOT23, 3-Leads, Body 2.90x2.45mm, Pitch 0.95mm, IPC Medium Density)
pins: 1 G, 2 S, 3 D

## TP_S13-503
designator TP?, comment S13-503
HARWIN - S13-503 - Contacto, Conector, Hembra, Crimpado, Paso de 1.27 mm, Sonda con Resorte, 1.27 mm, 3 A, 17.75 mm; Body Material: Bronze; Body Plating: Gold; Gender: Female; Current Rating: 3A; Contact Resistance: 30mR; Resistance: 0.03R; Manufacturer: Harwin; Manufacturer Part Number: S13-503; RoHS: Yes; Category: Connectors; Stock 1: 2945; Pricing 1: 1=1.51000, 10=1.37200, 25=1.28800, 50=1.23200, 100=1.17600, 250=1.06400, 500=0.98000, 1000=0.84000, 2500=0.78400 (USD); Contact Plating: Gold; Contact Material: Bronze; Material: Bronze; Package Quantity: 500; Length: 17.75mm; Depth: 0.97mm; Radiation Hardening: No; REACH SVHC: No SVHC; ComponentLink1URL: https://datasheet.ciiva.com/11723/0900766b81172e4a-11723895.pdf?src-supplier=RSComponents; ComponentLink1Description: https://datasheet.ciiva.com/11723/0900766b81172e4a-11723895.pdf?src-supplier=RSComponents; ComponentLink2URL: https://datasheet.ciiva.com/5228/s13-503-63793-5228027.pdf?src-supplier=Mouser; ComponentLink2Description: https://datasheet.ciiva.com/5228/s13-503-63793-5228027.pdf?src-supplier=Mouser; ComponentLink3URL: https://datasheet.ciiva.com/14849/spring-probes-14849694.pdf?src-supplier=Digi-Key; ComponentLink3Description: https://datasheet.ciiva.com/14849/spring-probes-14849694.pdf?src-supplier=Digi-Key; ComponentLink4URL: https://datasheet.ciiva.com/46638/spring-probes-46638686.pdf?src-supplier=Digi-Key; ComponentLink4Description: https://datasheet.ciiva.com/46638/spring-probes-46638686.pdf?src-supplier=Digi-Key; Supplier 1: Digi-Key; Supplier 2: Mouser; Supplier 3: Farnell
footprint S13-503 (Pogopin Sleeve)
pins: 1

## TP_S19-501
designator TP?, comment S19-501
Contact Probes CRIMP SLEEVE; Manufacturer: Harwin; Body Plating: Gold; Body Material: Copper; Gender: Female; Resistance: 0.03R; Current Rating: 3A; Contact Resistance: 30mR; Pitch: 1.9mm; Manufacturer Part Number: S19-501; RoHS: Yes; Category: Connectors; Stock 1: 4332; Pricing 1: 1=1.31000, 10=1.15500, 25=1.08720, 50=1.04200, 100=0.99660, 250=0.90600, 500=0.81540, 1000=0.72480, 2500=0.65685 (USD); Material: Bronze; Contact Plating: Gold; Package Quantity: 500; Length: 17.4mm; Radiation Hardening: No; REACH SVHC: No SVHC; ComponentLink1URL: https://datasheet.ciiva.com/1454/84580-1454636.pdf?src-supplier=Element14; ComponentLink1Description: https://datasheet.ciiva.com/1454/84580-1454636.pdf?src-supplier=Element14; ComponentLink2URL: https://datasheet.ciiva.com/14849/spring-probes-14849692.pdf?src-supplier=Digi-Key; ComponentLink2Description: https://datasheet.ciiva.com/14849/spring-probes-14849692.pdf?src-supplier=Digi-Key; ComponentLink3URL: https://datasheet.ciiva.com/46638/spring-probes-46638687.pdf?src-supplier=Digi-Key; ComponentLink3Description: https://datasheet.ciiva.com/46638/spring-probes-46638687.pdf?src-supplier=Digi-Key; Supplier 1: Digi-Key; Supplier 2: Mouser; Supplier 3: Farnell; Supplier Part Number 1: 952-2614-ND; Supplier Part Number 2: 855-S19-501; Supplier Part Number 3: 9960198
footprint S19-501 (Pogopin Sleeve)
pins: 1

## TP_S25-022
designator TP?, comment S25-022  Supplier Part Number 1: 952-2293-ND  Supplier Part Number 2: 855-S25-022  Supplier Part Number 3: 9960260
Spring Spade Terminal 23.7mm Gold Bulk/Loose; Manufacturer: Harwin; Body Material: Copper; Resistance: 0.03R; Gender: Receptacle; Current Rating: 3A; Contact Resistance: 50mR; Pitch: 2.54mm; Wire/Cable Gauge: 16AWG; Manufacturer Part Number: S25-022; RoHS: Yes; Category: Connectors; Stock 1: 3503; Pricing 1: 1=1.19000, 10=1.04600, 25=0.98400, 50=0.94300, 100=0.90200, 250=0.82000, 500=0.73800, 1000=0.65600, 2500=0.59450 (USD); Contact Plating: Gold; Contact Material: Bronze; Body Plating: Gold; Material: Bronze; Packaging: Bulk; Length: 23.7mm; Depth: 1.83mm; Radiation Hardening: No; REACH SVHC: No SVHC; ComponentLink1URL: https://datasheet.ciiva.com/1454/1730501-1454637.pdf?src-supplier=Element14; ComponentLink1Description: https://datasheet.ciiva.com/1454/1730501-1454637.pdf?src-supplier=Element14; ComponentLink2URL: https://datasheet.ciiva.com/6439/spring-probes-6439007.pdf?src-supplier=Digi-Key; ComponentLink2Description: https://datasheet.ciiva.com/6439/spring-probes-6439007.pdf?src-supplier=Digi-Key; Supplier 1: Digi-Key; Supplier 2: Mouser; Supplier 3: Farnell
footprint S25-022 (Pogopin Sleeve)
pins: 1

## TP_S25-501
designator TP?, comment S25-501
SPRING PROBE SLEEVE; Manufacturer 1: Harwin; Gender: Male; Manufacturer Part Number 1: S25-501; RoHS: No; Category: Connectors; Stock 1: 678; Pricing 1: 1=1.44000, 10=1.27000, 25=1.19520, 50=1.14540, 100=1.09560, 250=0.99600, 500=0.89640, 1000=0.79680, 2500=0.72210 (USD); Package Quantity: 100; ComponentLink1URL: https://datasheet.ciiva.com/5229/s25-501-63876-5229986.pdf?src-supplier=Mouser; ComponentLink1Description: https://datasheet.ciiva.com/5229/s25-501-63876-5229986.pdf?src-supplier=Mouser; ComponentLink2URL: https://datasheet.ciiva.com/14849/spring-probes-14849691.pdf?src-supplier=Digi-Key; ComponentLink2Description: https://datasheet.ciiva.com/14849/spring-probes-14849691.pdf?src-supplier=Digi-Key; Supplier 1: Digi-Key; Supplier 2: Mouser; Supplier Part Number 1: 952-3481-ND; Supplier Part Number 2: 855-S25-501
footprint S25-501 (Pogopin Sleeve)
pins: 1

## TP_Testpoint
designator TP?, comment TP  (value not drawn)  (no BOM)
SPRING PROBE SLEEVE
footprint Testpoint_50mil (Testpoint)
footprint Pin Header 1x1 TH Pitch 2.54mm TP (PinHeader 1x1 TH Pitch 2.54mm)
footprint 1040
footprint 1002m (Vogt 1002m)
footprint Via 0.6mm
footprint TP-0.8mm
pins: 1

## TR_EI3032031
designator TR?, comment EI3032031
PCB transformer 1.9 VA 9 VAC  (1x), EI303 2031, Hahn; Supplier 1: Distrelec; Supplier Part Number 1: 15618129; Manufacturer: Hahn; Manufacturer Part Number: EI3032031; RoHS: Yes; Stock: 2; Pricing 1: 1=5.70000, 10=4.85000, 50=4.10000 (CHF); ComponentLink1URL: https://datasheet.ciiva.com/3357/ei30-eng-tds-3357222.pdf?src-supplier=Distrelec; ComponentLink1Description: https://datasheet.ciiva.com/3357/ei30-eng-tds-3357222.pdf?src-supplier=Distrelec
footprint EI303 2031 (SODFL, 2-Leads, Body 3.63x5.35mm, IPC Medium Density)
pins: 1, 5, 7, 9

## U_74AHCT125D
designator U?, comment 74AHCT125D
74AHCT125D/SO14/REEL13//; Manufacturer: NXP Semiconductors; Manufacturer Part Number: 74AHCT125D,118; Logic Function: Buffer,Inverting; Polarity: Non-Inverting; Max Supply Voltage: 5.5V; Min Supply Voltage: 4.5V; Propagation Delay: 11ns; Low Level Output Current: 8mA; Number of Input Lines: 4; High Level Output Current: -8mA; Operating Supply Voltage: 5V; Quiescent Current: 2uA; Number of Bits per Element: 1; RoHS: Yes; Stock 1: 1450; Pricing 1: 1 = 0.43000, 10 = 0.34900, 25 = 0.31920, 100 = 0.23760, 250 = 0.21536, 500 = 0.17822, 1000 = 0.13367 (USD); Mount: Surface Mount; Case/Package: SO; Number of Pins: 14; Contact Plating: Gold; Min Operating Temperature: -40°C; Max Operating Temperature: 125°C; Packaging: Tape and Reel; Package Quantity: 2500; Number of Output Lines: 4; Number of Inputs: 4; Number of Channels: 4; Number of Outputs: 4; Number of Elements: 4; Turn-On Delay Time: 11ns; Radiation Hardening: No; Lead Free: Lead Free; ComponentLink1URL: http://www.nxp.com/documents/data_sheet/74AHC_AHCT125.pdf?src-supplier=Digi-Key; ComponentLink1Description: http://www.nxp.com/documents/data_sheet/74AHC_AHCT125.pdf?src-supplier=Digi-Key; ComponentLink2URL: http://ics.nxp.com/logic/to/documents/data_sheet/74AHC_AHCT125.pdf?src-supplier=Avnet+Europe; ComponentLink2Description: http://ics.nxp.com/logic/to/documents/data_sheet/74AHC_AHCT125.pdf?src-supplier=Avnet+Europe; Supplier 1: Digi-Key; Supplier 2: Digi-Key; Supplier 3: Mouser; Supplier Part Number 1: 1727-7293-1-ND; Supplier Part Number 2: 296-4652-5-ND; Supplier Part Number 3: 595-SN74AHCT125D
footprint TSSOP-14 (TSOP, 14-Leads, Body 5.00x4.40mm, Pitch 0.65mm, IPC Medium Density)
footprint SOP 14 (SOIC, 14-Leads, Body 8.65x3.80mm, Pitch 1.27mm, IPC Medium Density)
part A pins: 1 (in), 2 (in), 3 (out)
part B pins: 4 (in), 5 (in), 6 (out)
part C pins: 8 (out), 9 (in), 10 (in)
part D pins: 11 (out), 12 (in), 13 (in)
part E pins: 7 GND (power), 14 VCC (power)

## U_A_AD8617ARZ
designator U?, comment AD8617ARZ
ANALOG DEVICES         AD8617ARZ            Operational Amplifier, Dual, 350 kHz, 2 Amplifier, 0.1 V/s, 1.8V to 5V, SOIC, 8 Pins; Voltage Gain: 113.98dB; Max Dual Supply Voltage: 2.5V; Min Dual Supply Voltage: 900mV; Gain Bandwidth Product: 400kHz; Slew Rate: 0.1V/µs; Common Mode Rejection Ratio: 95dB; Operating Supply Voltage: 3V; Number of Circuits: 2; Input Bias Current: 0.2pA; Input Offset Voltage (Vos): 2.2mV; Operating Supply Current: 76uA; Output Current per Channel: 80mA; Input Voltage Noise Density: 25nV/sqrt Hz; Power Supply Rejection Ratio (PSRR): 94dB; Quiescent Current: 38uA; Input Capacitance: 2.5pF; Settling Time: 23us; Bandwidth: 350kHz; Nominal Supply Current: 80uA; Manufacturer: Analog Devices; Manufacturer Part Number: AD8617ARZ; RoHS: Yes; Category: Amplifiers - Op Amps, Buffer, Instrumentation; Stock: 537; Pricing 1: 1=2.21000, 10=1.98800, 25=1.87520, 100=1.50000, 250=1.31252, 500=1.27500, 1000=1.08750 (USD); Case/Package: R; Number of Pins: 8; Contact Plating: Tin,Matte; Min Operating Temperature: -40°C; Max Operating Temperature: 125°C; Min Supply Voltage: 1.8V; Max Supply Voltage: 5V; Packaging: Rail/Tube; Unity Gain Bandwidth Product: 400kHz; Package Quantity: 98; Number of Channels: 2; Number of Elements: 2; Number of Amplifiers: 2; Length: 5mm; Height: 1.5mm; Width: 4mm; Radiation Hardening: No; Lead Free: Contains Lead; REACH SVHC: No SVHC; ComponentLink1URL: https://datasheet.ciiva.com/14151/oqad8617-datasheet-en-14151830.pdf?src-supplier=Distrelec; ComponentLink1Description: https://datasheet.ciiva.com/14151/oqad8617-datasheet-en-14151830.pdf?src-supplier=Distrelec; ComponentLink2URL: https://datasheet.ciiva.com/2974/ad8613-8617-8619-2974708.pdf?src-supplier=Avnet; ComponentLink2Description: https://datasheet.ciiva.com/2974/ad8613-8617-8619-2974708.pdf?src-supplier=Avnet; ComponentLink3URL: https://datasheet.ciiva.com/17391/ad8613-8617-8619-17391910.pdf?src-supplier=Avnet+Europe; ComponentLink3Description: https://datasheet.ciiva.com/17391/ad8613-8617-8619-17391910.pdf?src-supplier=Avnet+Europe; ComponentLink4URL: https://datasheet.ciiva.com/1794/ad8613-8617-8619-1794251.pdf?src-supplier=Digi-Key; ComponentLink4Description: https://datasheet.ciiva.com/1794/ad8613-8617-8619-1794251.pdf?src-supplier=Digi-Key; ComponentLink5URL: https://datasheet.ciiva.com/1135/1827454-1135838.pdf?src-supplier=Element14; ComponentLink5Description: https://datasheet.ciiva.com/1135/1827454-1135838.pdf?src-supplier=Element14; Supplier 1: Digi-Key; Supplier 2: Mouser; Supplier 3: Farnell; Supplier Part Number 1: AD8617ARZ-ND; Supplier Part Number 2: 584-AD8617ARZ; Supplier Part Number 3: 1117888
footprint MSOP8 (S-PDSO-G8, DGK,)
part A pins: 1 (out), 2 - (in), 3 + (in)
part B pins: 5 + (in), 6 - (in), 7 1 (out)
part C pins: 4 V- (power), 8 V+ (power)

## U_A_LM258A
designator U?, comment LM258A
IC OPAMP GP 700KHZ 8SOIC; Manufacturer: Texas Instruments; Manufacturer Part Number: LM258ADR; ComponentLink1URL: https://datasheet.ciiva.com/46382/1874566-46382412.pdf; ComponentLink1Description: https://datasheet.ciiva.com/46382/1874566-46382412.pdf; ComponentLink2URL: https://datasheet.ciiva.com/26264/lm358a-26264541.pdf; ComponentLink2Description: https://datasheet.ciiva.com/26264/lm358a-26264541.pdf; ComponentLink3URL: https://datasheet.ciiva.com/22657/1874566-22657182.pdf; ComponentLink3Description: https://datasheet.ciiva.com/22657/1874566-22657182.pdf; ComponentLink4URL: https://datasheet.ciiva.com/1795/lm258a-1795564.pdf; ComponentLink4Description: https://datasheet.ciiva.com/1795/lm258a-1795564.pdf; ComponentLink5URL: https://datasheet.ciiva.com/2973/lm358a-2973282.pdf; ComponentLink5Description: https://datasheet.ciiva.com/2973/lm358a-2973282.pdf; ComponentLink6URL: https://datasheet.ciiva.com/1795/lm258a-1795562.pdf; ComponentLink6Description: https://datasheet.ciiva.com/1795/lm258a-1795562.pdf; ComponentLink7URL: https://datasheet.ciiva.com/1795/lm258a-1795563.pdf; ComponentLink7Description: https://datasheet.ciiva.com/1795/lm258a-1795563.pdf; ComponentLink8URL: https://datasheet.ciiva.com/1795/cd00000464-1795677.pdf; ComponentLink8Description: https://datasheet.ciiva.com/1795/cd00000464-1795677.pdf; ComponentLink9URL: https://datasheet.ciiva.com/1795/cd00000464-1795678.pdf; ComponentLink9Description: https://datasheet.ciiva.com/1795/cd00000464-1795678.pdf; ComponentLink10URL: https://datasheet.ciiva.com/22696/1862552-22696219.pdf; ComponentLink10Description: https://datasheet.ciiva.com/22696/1862552-22696219.pdf; ComponentLink11URL: https://datasheet.ciiva.com/1795/cd00000464-1795676.pdf; ComponentLink11Description: https://datasheet.ciiva.com/1795/cd00000464-1795676.pdf; Supplier 1: Digi-Key; Supplier Part Number 1: 296-15169-1-ND; Case/Package: SOIC
footprint SO8 (SOIC, 8-Leads, Body 4.90x3.90mm, Pitch 1.27mm, IPC Medium Density)
part A pins: 1 (out), 2 - (in), 3 + (in)
part B pins: 5 + (in), 6 - (in), 7 1 (out)
part C pins: 4 V- (power), 8 V+ (power)

## U_A_LM321MF/NOPB
designator U?, comment LM321MF/NOPB
Operational Amplifiers - Op Amps LOW PWR SGL OP AMP; Manufacturer: TI National Semiconductor; Supplier 1: Digi-Key; Supplier Part Number 1: LM321MF/NOPBCT-ND; Manufacturer Part Number: LM321MF/NOPB; Case/Package: SOT-23; ComponentLink1URL: https://datasheet.ciiva.com/14151/lm321-eng-tds-14151390.pdf; ComponentLink1Description: https://datasheet.ciiva.com/14151/lm321-eng-tds-14151390.pdf; ComponentLink2URL: https://datasheet.ciiva.com/31417/1771499-31417568.pdf; ComponentLink2Description: https://datasheet.ciiva.com/31417/1771499-31417568.pdf; ComponentLink3URL: https://datasheet.ciiva.com/2973/lm321-2973328.pdf; ComponentLink3Description: https://datasheet.ciiva.com/2973/lm321-2973328.pdf; ComponentLink4URL: https://datasheet.ciiva.com/5703/1771499-5703818.pdf; ComponentLink4Description: https://datasheet.ciiva.com/5703/1771499-5703818.pdf; ComponentLink5URL: https://datasheet.ciiva.com/6631/lm321-6631352.pdf; ComponentLink5Description: https://datasheet.ciiva.com/6631/lm321-6631352.pdf; ComponentLink6URL: https://datasheet.ciiva.com/5703/1771499-5703819.pdf; ComponentLink6Description: https://datasheet.ciiva.com/5703/1771499-5703819.pdf; ComponentLink7URL: https://datasheet.ciiva.com/14347/lm321-14347190.pdf; ComponentLink7Description: https://datasheet.ciiva.com/14347/lm321-14347190.pdf; ComponentLink8URL: https://datasheet.ciiva.com/6631/lm321-6631351.pdf; ComponentLink8Description: https://datasheet.ciiva.com/6631/lm321-6631351.pdf; ComponentLink9URL: https://datasheet.ciiva.com/6631/lm321-6631353.pdf; ComponentLink9Description: https://datasheet.ciiva.com/6631/lm321-6631353.pdf
footprint SOT-23-5
part A pins: 1 + (in), 3 - (in), 4 Out (out)
part B pins: 2 V- (power), 5 V+ (power)

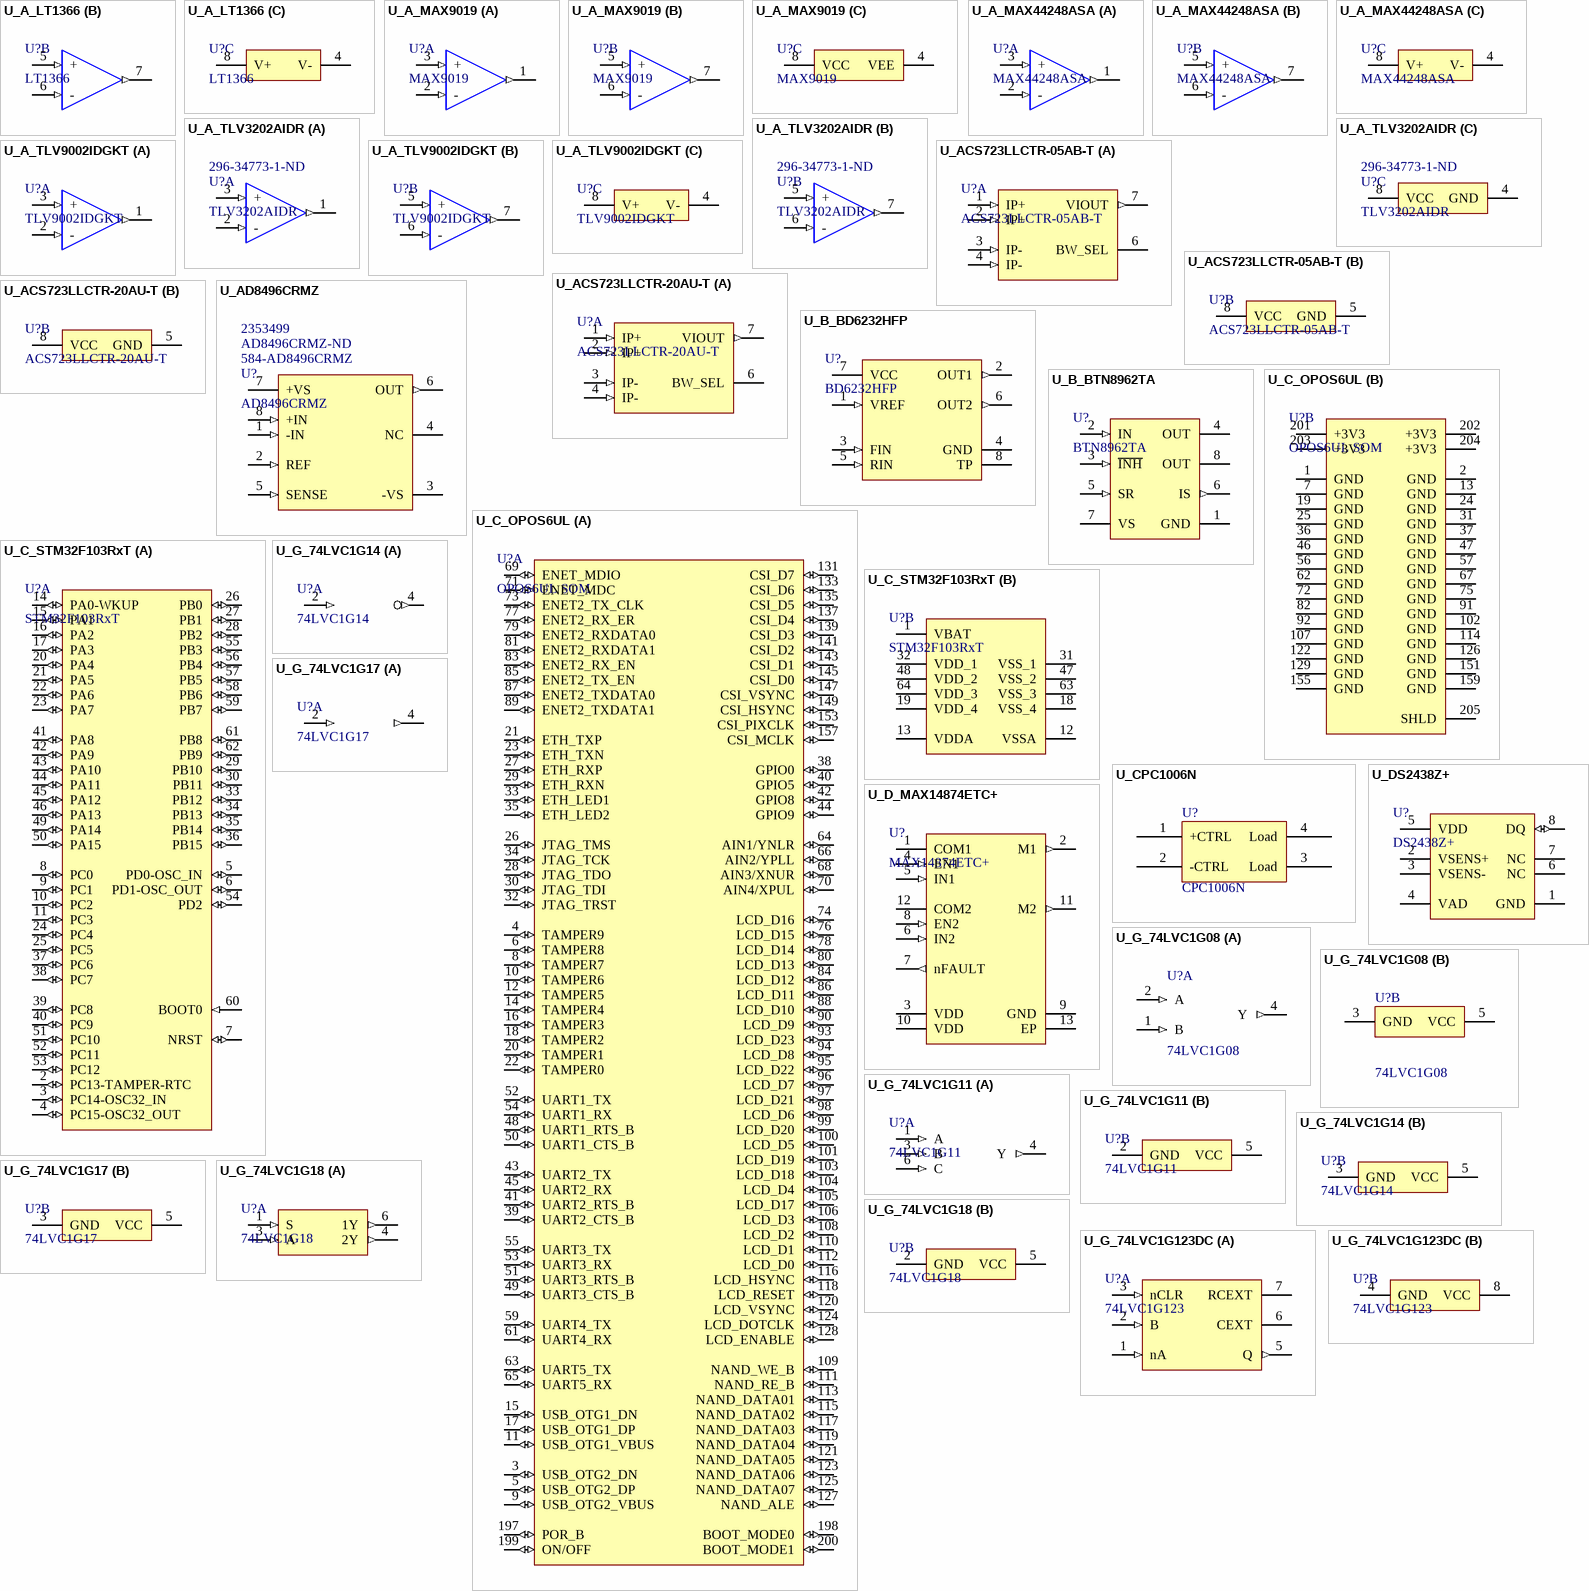
[diagram p4: symbols U_A_LT1366 to U_G_74LVC1G123DC]

## U_A_LT1366
designator U?, comment LT1366
IC OPAMP GP 400KHZ RRO 8SO; Manufacturer: Linear Technology; Manufacturer Part Number: LT1366CS8#PBF; Supplier 2: Digi-Key; Supplier Part Number 2: LT1366CS8#PBF-ND; Case/Package: SOIC; ComponentLink1URL: https://datasheet.ciiva.com/26851/lt1366cs8-pbf-26851234.pdf; ComponentLink1Description: https://datasheet.ciiva.com/26851/lt1366cs8-pbf-26851234.pdf; ComponentLink2URL: https://datasheet.ciiva.com/5704/1631324-5704377.pdf; ComponentLink2Description: https://datasheet.ciiva.com/5704/1631324-5704377.pdf; ComponentLink3URL: https://datasheet.ciiva.com/1795/2500-1795095.pdf; ComponentLink3Description: https://datasheet.ciiva.com/1795/2500-1795095.pdf; Supplier 1: Safematic
footprint SO8 (SOIC, 8-Leads, Body 4.90x3.90mm, Pitch 1.27mm, IPC Medium Density)
part A pins: 1 (out), 2 - (in), 3 + (in)
part B pins: 5 + (in), 6 - (in), 7 1 (out)
part C pins: 4 V- (power), 8 V+ (power)